# Altium schematic symbol library Schlib1.SchLib: 1 symbol
Pins are listed as number, name and electrical type; pins without a type are passive.

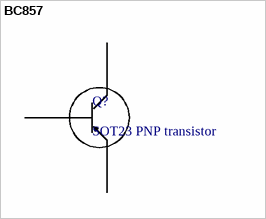
[diagram p0: symbol BC857]

## BC857
designator Q?, comment SOT23 PNP transistor
footprint PCBComponent_1
pins: 1 B, 2 C, 3 E